# Altium footprint library Mezeq_Passives.PcbLib: 20 footprints (part 2 of 2)
Each footprint in its own frame and in the unit in brackets; x right, y up, seen from the top. Pads: shape width x height; smd on the part's side, far side on the other; paste and mask are expansions set on the pad; w line width, h text height; cw(c..) or ccw(c..) is an arc to the next point about the centre after c.
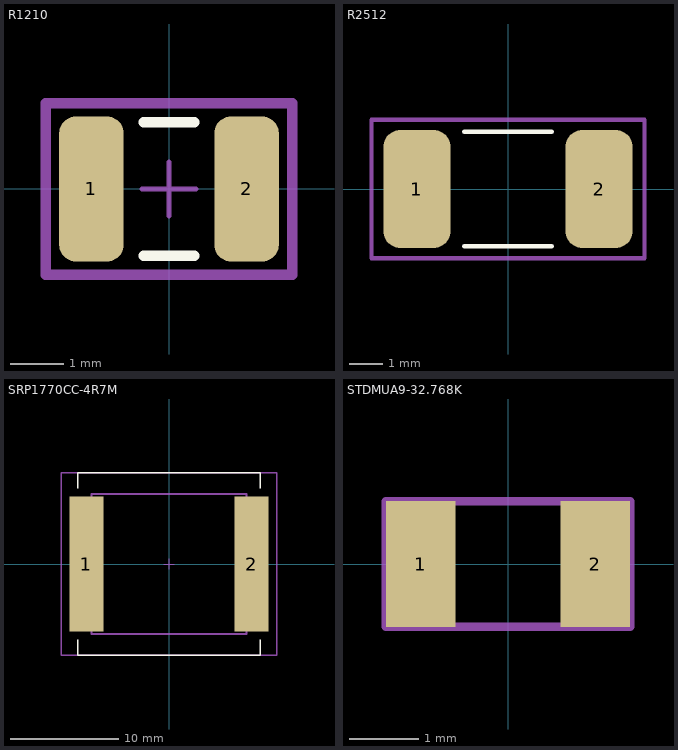
[diagram p1: the footprints below, top view; thin cyan lines are the x and y axes]

## R1210 [mm]
pads (2):
  rrect50% 1.205x2.706 smd: 1(-1.451,0) 2(1.451,0)
Top Overlay:
  lines w0.2: -0.473,-1.25 0.473,-1.25 ; -0.473,1.25 0.473,1.25
Top Assembly:
  lines w0.127: -2.303,-1.603 2.303,-1.603 2.303,1.603 -2.303,1.603 -2.303,-1.603
  text ".Designator" at -4.998,-0.333 h1
Top Courtyard:
  lines w0.2: -2.303,-1.603 2.303,-1.603 2.303,1.603 -2.303,1.603 -2.303,-1.603
Top Component Center:
  lines w0.1: -0.5,0 0.5,0 ; 0,-0.5 0,0.5
3D body "Res_Vishay_CRCW12104K70FKEC_eec.STEP": height 0.6, standoff 0, extent -1.6,-1.25 1.6,1.25

## R2512 [mm] "Chip Resistor; Body 6.4 x 3.2 mm (LxW typ)"
height 0.6
pads (2):
  rrect50% 2x3.5 smd: 1(-2.7,0) 2(2.7,0)
Top Overlay:
  lines w0.127: -1.3,-1.7 1.3,-1.7 ; -1.3,1.7 1.3,1.7
Top Assembly:
  lines w0.127: -4.052,-2.052 4.052,-2.052 ; -4.052,-2.002 -4.052,2.002 ; -4.052,2.052 4.052,2.052 ; 4.052,-2.002 4.052,2.002
  text ".Designator" at -4.063,-0.271 h0.81
3D body "CircuitWorks-RESISTOR 2512.step": height 0.58, standoff -0.03, extent -3.175,-1.63 3.175,1.63

## SRP1770CC-4R7M [mm]
height 7
pads (2):
  rect 3.15x12.5 smd: 1(-7.675,0) 2(7.675,0)
Top Overlay:
  lines w0.127: -8.45,-7.05 -8.45,-8.45 8.45,-8.45 8.45,-7.05 ; -8.45,7.05 -8.45,8.45 8.45,8.45 8.45,7.05
Top Assembly:
  lines w0.127: -10,-8.45 10,-8.45 10,8.45 -10,8.45 -10,-8.45
  text ".Designator" at -9.997,-0.666 h2
Top Courtyard:
  lines w0.2: -7.2,-6.5 7.2,-6.5 7.2,6.5 -7.2,6.5 -7.2,-6.5
Top Component Center:
  lines w0.1: -0.5,0 0.5,0 ; 0,-0.5 0,0.5
3D body "3D_SRP1770CC SERIES (1).stp": height 6.72, standoff 0.01, extent -8.8,-8.45 8.8,8.45

## STDMUA9-32.768K [mm]
pads (2):
  rect 1x1.8 smd: 1(-1.25,0) 2(1.25,0)
Top Assembly:
  lines w0.127: -1.75,-0.9 1.75,-0.9 1.75,0.9 -1.75,0.9 -1.75,-0.9
  text ".Designator" at -4.998,-0.333 h1
3D body "STDMUA9-32.768K.STEP": height 0.9, standoff 0, extent -1.58,-0.762 1.62,0.738